# Altium footprint library RF.PcbLib: 2 footprints
Each footprint in its own frame and in the unit in brackets; x right, y up, seen from the top. Pads: shape width x height; smd on the part's side, far side on the other; paste and mask are expansions set on the pad; w line width, h text height; cw(c..) or ccw(c..) is an arc to the next point about the centre after c.
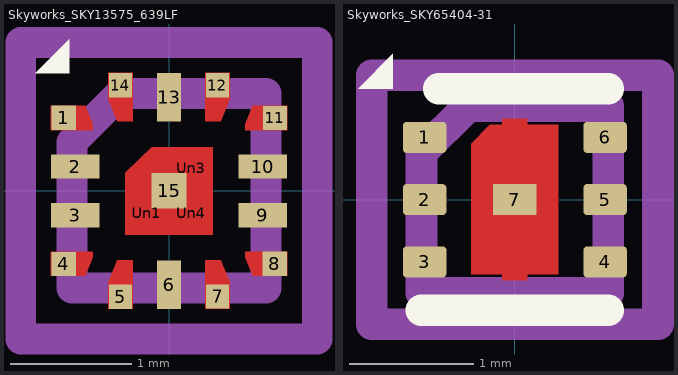
[diagram p0: the footprints below, top view; thin cyan lines are the x and y axes]

## Skyworks_SKY13575_639LF [mm]
pads (19):
  rect 0.2x0.2 smd: 1(-0.866,0.601) 4(-0.866,-0.602) 8(0.871,-0.6) 11(0.872,0.6)
  rect 0.4x0.2 smd: 2(-0.772,0.2) 3(-0.772,-0.2) 9(0.772,-0.2) 10(0.772,0.2)
  rect 0.19x0.2 smd: 5(-0.4,-0.871) 7(0.4,-0.87) 12(0.398,0.87) 14(-0.4,0.869)
  rect 0.2x0.4 smd: 6(0,-0.772) 13(0,0.772)
  rect 0.29x0.29 smd: 15(0,0)
  rect 0.29x0.29 on Top Paste: Un1(-0.185,-0.185) Un3(0.185,0.185) Un4(0.185,-0.185)
  rect 0.1x0.1 on Top Paste: Un2(-0.17,0.17)
F.Cu:
  region: -0.627,0.548 -0.627,0.5 -0.972,0.5 -0.972,0.7 -0.691,0.7
  region: -0.627,-0.548 -0.691,-0.7 -0.972,-0.7 -0.972,-0.5 -0.627,-0.5
  region: -0.3,-0.972 -0.5,-0.972 -0.5,-0.752 -0.425,-0.572 -0.3,-0.572
  region: 0.5,-0.752 0.5,-0.972 0.3,-0.972 0.3,-0.572 0.425,-0.572
  region: 0.972,-0.7 0.691,-0.7 0.627,-0.548 0.627,-0.5 0.972,-0.5
  region: 0.972,0.5 0.627,0.5 0.627,0.548 0.691,0.7 0.972,0.7
  region: 0.5,0.752 0.425,0.572 0.3,0.572 0.3,0.972 0.5,0.972
  region: -0.3,0.572 -0.425,0.572 -0.5,0.752 -0.5,0.972 -0.3,0.972
  region: 0.36,-0.36 -0.36,-0.36 -0.36,0.15 -0.14,0.36 0.36,0.36
F.SilkS:
  region: -0.82,0.97 -1.1,0.97 -0.82,1.25
F.Paste:
  region: -0.04,0.04 -0.33,0.04 -0.33,0.14 -0.13,0.33 -0.04,0.33
  region: -0.627,0.548 -0.627,0.5 -0.972,0.5 -0.972,0.7 -0.691,0.7
  region: -0.627,-0.548 -0.691,-0.7 -0.972,-0.7 -0.972,-0.5 -0.627,-0.5
  region: -0.3,-0.972 -0.5,-0.972 -0.5,-0.752 -0.425,-0.572 -0.3,-0.572
  region: 0.5,-0.752 0.5,-0.972 0.3,-0.972 0.3,-0.572 0.425,-0.572
  region: 0.972,-0.7 0.691,-0.7 0.627,-0.548 0.627,-0.5 0.972,-0.5
  region: 0.972,0.5 0.627,0.5 0.627,0.548 0.691,0.7 0.972,0.7
  region: 0.5,0.752 0.425,0.572 0.3,0.572 0.3,0.972 0.5,0.972
  region: -0.3,0.572 -0.425,0.572 -0.5,0.752 -0.5,0.972 -0.3,0.972
F.Mask:
  region: -0.627,0.548 -0.627,0.5 -0.972,0.5 -0.972,0.7 -0.691,0.7
  region: -0.627,-0.548 -0.691,-0.7 -0.972,-0.7 -0.972,-0.5 -0.627,-0.5
  region: -0.3,-0.972 -0.5,-0.972 -0.5,-0.752 -0.425,-0.572 -0.3,-0.572
  region: 0.5,-0.752 0.5,-0.972 0.3,-0.972 0.3,-0.572 0.425,-0.572
  region: 0.972,-0.7 0.691,-0.7 0.627,-0.548 0.627,-0.5 0.972,-0.5
  region: 0.972,0.5 0.627,0.5 0.627,0.548 0.691,0.7 0.972,0.7
  region: 0.5,0.752 0.425,0.572 0.3,0.572 0.3,0.972 0.5,0.972
  region: -0.3,0.572 -0.425,0.572 -0.5,0.752 -0.5,0.972 -0.3,0.972
  region: 0.36,-0.36 -0.36,-0.36 -0.36,0.15 -0.14,0.36 0.36,0.36
F.Fab:
  lines w0.254: -0.8,-0.8 -0.8,0.4 -0.4,0.8 0.8,0.8 0.8,-0.8 -0.8,-0.8
  text "'.Designator'" at -2.023,1.13 h0.5
F.CrtYd:
  lines w0.254: -1.22,-1.22 -1.22,1.22 1.22,1.22 1.22,-1.22 -1.22,-1.22

## Skyworks_SKY65404-31 [mm]
pads (7):
  rrect25% 0.35x0.25 smd: 1(-0.725,0.5) 2(-0.725,0) 3(-0.725,-0.5) 4(0.725,-0.5) 5(0.725,0) 6(0.725,0.5)
  rect 0.35x0.25 smd: 7(0,0)
F.Cu:
  region: 0.1,0.6 0.35,0.6 0.35,-0.6 0.1,-0.6 0.1,-0.65 -0.1,-0.65 -0.1,-0.6 -0.35,-0.6 -0.35,0.45 -0.2,0.6 -0.1,0.6 -0.1,0.65 0.1,0.65
F.SilkS:
  region: -0.98,0.89 -1.26,0.89 -0.98,1.17
  lines w0.254: -0.75,-0.89 0.75,-0.89 ; -0.61,0.89 0.75,0.89
F.Paste:
  region: 0.1,0.6 0.35,0.6 0.35,-0.6 0.1,-0.6 0.1,-0.65 -0.1,-0.65 -0.1,-0.6 -0.35,-0.6 -0.35,0.45 -0.2,0.6 -0.1,0.6 -0.1,0.65 0.1,0.65
F.Mask:
  region: 0.1,0.6 0.35,0.6 0.35,-0.6 0.1,-0.6 0.1,-0.65 -0.1,-0.65 -0.1,-0.6 -0.35,-0.6 -0.35,0.45 -0.2,0.6 -0.1,0.6 -0.1,0.65 0.1,0.65
F.Fab:
  lines w0.254: -0.75,-0.75 -0.75,0.375 -0.375,0.75 0.75,0.75 0.75,-0.75 -0.75,-0.75
  text "'.Designator'" at 0.42,-2.023 h0.5
F.CrtYd:
  lines w0.254: -1.15,-1 -1.15,1 1.15,1 1.15,-1 -1.15,-1